# EAGLE library part NXTCONN (library untitled)
AMP connector
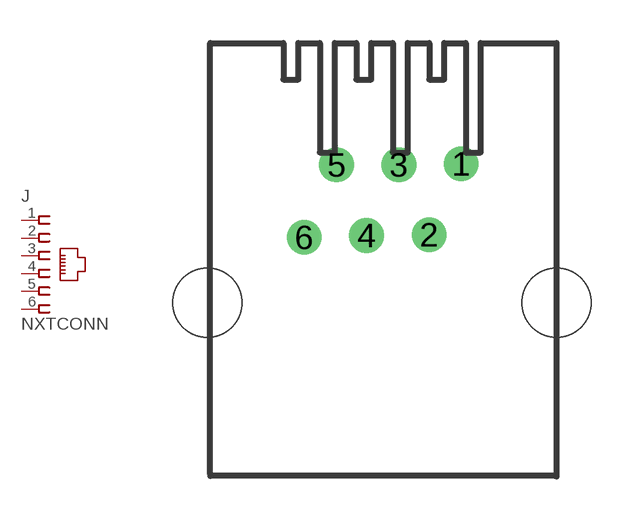
[diagram p0: symbol with the pads of NXTCONN; footprint NXTCONN]

Designator prefix J

## NXTCONN  [NXTCONN]
1  1  pas
2  2  pas
3  3  pas
4  4  pas
5  5  pas
6  6  pas

## Footprint NXTCONN (pad centres in mm)
Modular Jack without Panel Stops
drill 0.7 round: 1 2.764,6.84; 2 1.647,4.372; 3 0.59,6.805; 4 -0.539,4.346; 5 -1.584,6.804; 6 -2.705,4.28
hole 2.4 at -6.08,2
hole 2.4 at 6.08,2